# EAGLE library part DEMUX (library ZMPLC)
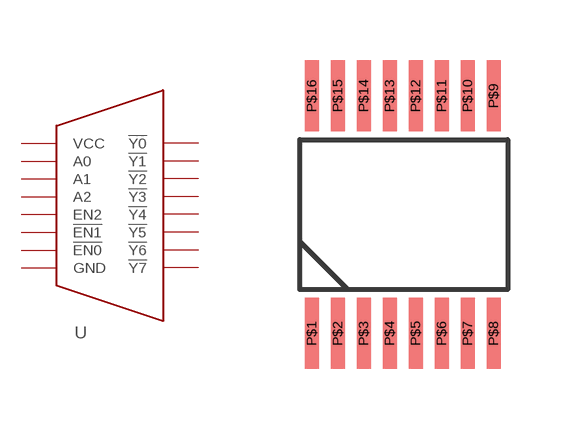
[diagram p6: symbol with the pads of TSSOP16; footprint TSSOP16]

Designator prefix -

## DEMUX  [TSSOP16]
P$1  A0
P$2  A1
P$3  A2
P$4  !EN0
P$5  !EN1
P$6  EN2
P$7  !Y7
P$8  GND  pwr
P$9  !Y6
P$10  !Y5
P$11  !Y4
P$12  !Y3
P$13  !Y2
P$14  !Y1
P$15  !Y0
P$16  VCC  pwr

## Footprint TSSOP16 (pad centres in mm)
smd 0.35 x 1.78: P$1 0.02,-6; P$2 0.67,-6; P$3 1.32,-6; P$4 1.97,-6; P$5 2.62,-6; P$6 3.27,-6; P$7 3.92,-6; P$8 4.57,-6; P$9 4.57,-0.06; P$10 3.92,-0.06; P$11 3.27,-0.06; P$12 2.62,-0.06; P$13 1.97,-0.06; P$14 1.32,-0.06; P$15 0.67,-0.06; P$16 0.02,-0.06